# EAGLE library part TPS55340 (library Skoba)
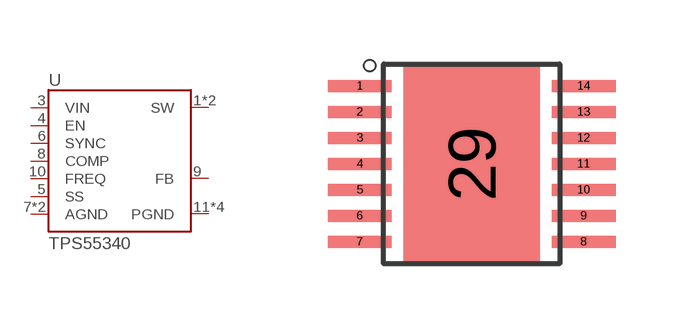
[diagram p19: symbol with the pads of POWERPAD-PWP-14; footprint POWERPAD-PWP-14]

Designator prefix U

## TPS55340  [POWERPAD-PWP-14]
1  SW
2  SW
3  VIN
4  EN
5  SS
6  SYNC
7  AGND
8  COMP
9  FB
10  FREQ
11  PGND
12  PGND
13  PGND
14  PGND
29  AGND

## Footprint POWERPAD-PWP-14 (pad centres in mm)
smd 1.6 x 0.3: 1 -2.8,1.95; 2 -2.8,1.3; 3 -2.8,0.65; 4 -2.8,0; 5 -2.8,-0.65; 6 -2.8,-1.3; 7 -2.8,-1.95; 8 2.8,-1.95; 9 2.8,-1.3; 10 2.8,-0.65; 11 2.8,0; 12 2.8,0.65; 13 2.8,1.3; 14 2.8,1.95
smd 3.4 x 5: 29 0,0